# Altium schematic symbol library Current_sence_unit.SCHLIB: 25 symbols
Pins are listed as number, name and electrical type; pins without a type are passive.

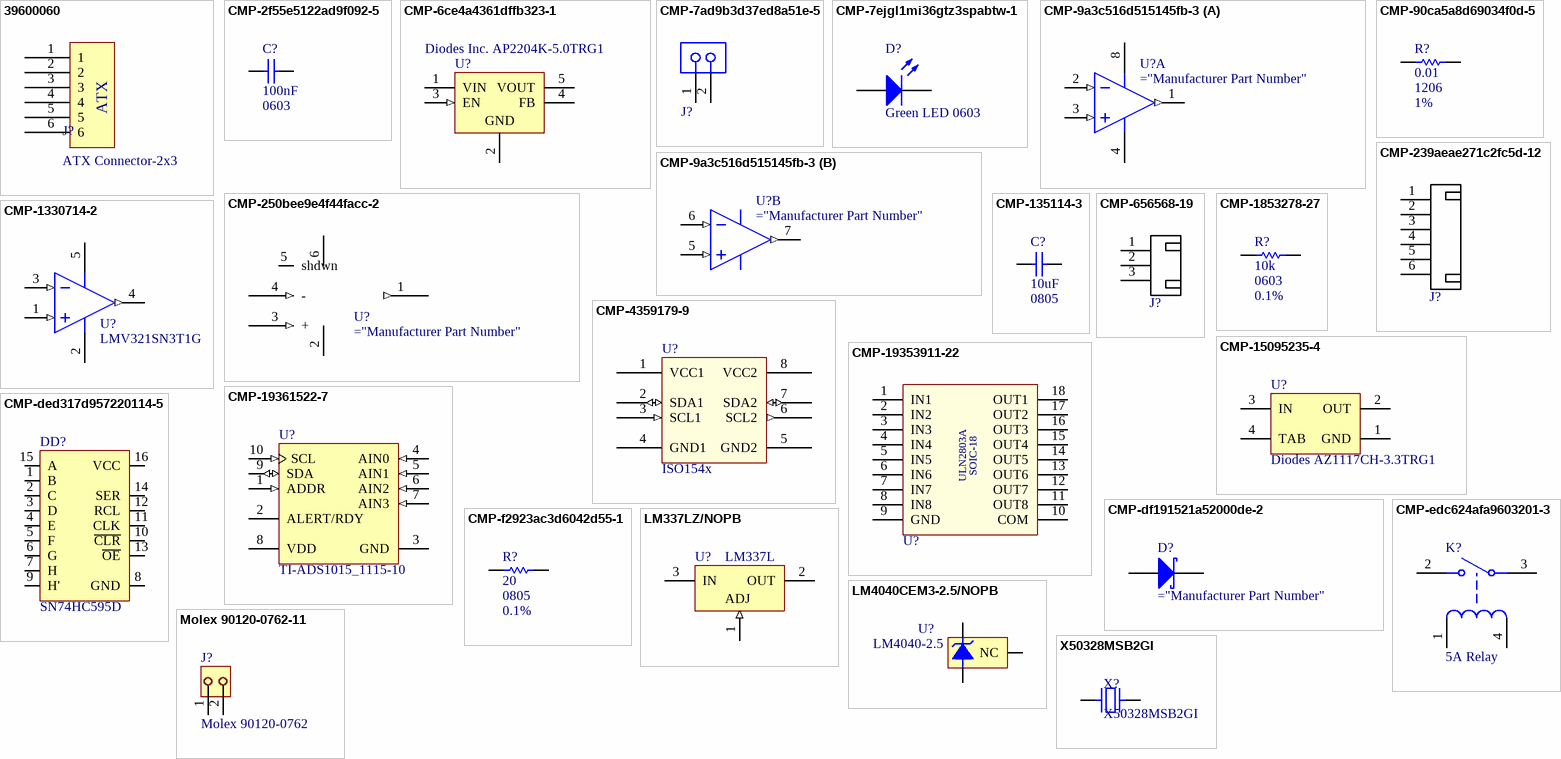
[diagram p0: symbols 39600060 to X50328MSB2GI]

## 39600060
designator J?, comment ATX Connector-2x3
Connector Header Through Hole, Right Angle 6 position 0.165" (4.20mm); Manufacturer: BOOMELE(Boom Precision Elec); Manufacture Part Number: 5557-2*3AW; Pin Pitch: 4.2mm; Supplier: LCSC; Supplier Part Number: C54904
footprint 30300060 (Connector Header Through Hole, Right Angle 6 position 0.165" (4.20mm))
pins: 1, 2, 3, 4, 5, 6
text: ATX

## CMP-2f55e5122ad9f092-5
designator C?, comment 100nF  Package / Case: 0603
0603 10 nF 50 V ± 10% Tolerance X7R Surface Mount Multilayer Ceramic Capacitor; Manufacture Part Number: CC0603KRX7R9BB104; Manufacturer: YAGEO; Voltage-Rated: 50V; Capacitance Tolerance: 10%; Capacitance: 100nF; Supplier: LCSC; Supplier Part Number: C14663
footprint CAPC1608X90X35NL15T15
footprint CAPC1608X90X35LL15T15
simulation model SIM-no9t85n8kjw1vco1f364-1 (Sim Model - AVX 06035C103KAT2A)
footprint CAPC1608X90X35ML15T15
footprint CAPC1608X09N (Footprint - 10nF)
pins: 1, 2

## CMP-6ce4a4361dffb323-1
designator U?, comment Diodes Inc. AP2204K-5.0TRG1
LDO voltage regulator [Diodes Incorporated] AP2204K-5.0TRG1 LDO voltage regulator; Manufacture Part Number: AP2204K-ADJTRG1; Lead-Free Status: Lead Free; Mounting Style: Surface Mount; Manufacturer: Diodes Incorporated; Supplier: LCSC; Supplier Part Number: C264072; Package: SOT-23-5
footprint PCB-iw3p7s72x6qbi5zew47f-1 (Footprint - Diodes Inc. AP2204K-5.0TRG1)
pins: 1 VIN (power), 2 GND (power), 3 EN (in), 4 FB, 5 VOUT (power)

## CMP-7ad9b3d37ed8a51e-5
designator J?, comment DB126V-5.0-2P-GN  (value not drawn)
Block, Terminal; 13.5 A; 250 V; 5 mm; 26 to 16 AWG; 2; Screw; Solder; 4 kV; PA; Manufacturer: DIBO; Pin pitch: 5.0mm; Manufacture Part Number: DB126V-5.0-2P-GN; Supplier: LCSC; Supplier Part Number: C395849
footprint PCB-kiok1jlp9o9fcwf1wwvf-1 (Footprint - Phoenix Contact 1729018)
pins: 1, 2

## CMP-7ejgl1mi36gtz3spabtw-1
designator D?, comment Green LED 0603
Generic LED 0603; Manufacturer: Orient; Manufacture Part Number: ORH-G36G; Forward Voltage: 2.8V; Color: Green; Supplier: LCSC; Supplier Part Number: C205443
footprint 0603LED_GEN (genaric LED 0603)
pins: 1 A, 2 K

## CMP-9a3c516d515145fb-3
designator U?
LM358 Series 30 V 1.1 MHz Low Power Dual Operational Amplifier - SOIC-8; Manufacture Part Number: LM358DT; Manufacturer: STMicroelectronics; Slew Rate: 600 mV/μs; Number of Channels: 2; Gain Bandwidth Product: 1.10 MHz; Supply Current: 700 µA; Lead-Free Status: Lead Free; Supply Voltage (DC): 32.0 V; Lifecycle Status: Active; REACH SVHC Compliance: No SVHC; Octopart URL: https://octopart.com/lm358dt-stmicroelectronics-39579147; RoHS: Compliant; Number of Pins: 8; Bandwidth: 1.10 MHz; Number of Circuits: 2; Packaging: Cut Tape (CT), Tape & Reel (TR); Mounting Style: Surface Mount; Case/Package: SOIC; OctopartID: 9a3c516d515145fb; Supplier Part Number: C9418; Supplier: LCSC
footprint SOIC-OA8_L (SOIC, 8-Leads, Body 4.9x3.9mm, Pitch 1.27mm, IPC High Density)
footprint SOIC-OA8_N (SOIC, 8-Leads, Body 4.9x3.9mm, Pitch 1.27mm, IPC Medium Density)
footprint SOIC-OA8_M (SOIC, 8-Leads, Body 4.9x3.9mm, Pitch 1.27mm, IPC Low Density)
part A pins: 1 OUTA (out), 2 INA- (in), 3 INA+ (in), 4 VEE/GND (power), 8 VCC (power)
part B pins: 5 INB+ (in), 6 INB- (in), 7 OUTB (out)

## CMP-90ca5a8d69034f0d-5
designator R?, comment 0.01  Package / Case: 1206  Resistance Tolerance: 1%
Res Thick Film 3.2 x 1.6 mm 10K Ohm 1% 0.25W(1/4W) 100ppm/ C Molded SMD Paper T/R; Manufacture Part Number: PE1206FKE470R01Z; Manufacturer: YAGEO; Resistance: 0.01; Supplier: LCSC; Supplier Part Number: C364375
footprint RESC3116X07N (Footprint - Yageo RC1206FR-0710KL)
footprint RESC3116X07M (Footprint - Yageo RC1206FR-0710KL)
footprint RESC3116X07L (Footprint - Yageo RC1206FR-0710KL)
pins: 1, 2

## CMP-239aeae271c2fc5d-12
designator J?, comment JST S6B-XH-A  (value not drawn)
Socket; wire-board; male; PIN: 6; 2.5mm; THT; XH; 250V; 3A; -25÷85°C; Manufacturer: JST Sales America; Manufacture Part Number: S6B-XH-A(LF)(SN); Lead-Free Status: Lead Free; Voltage Rating (AC): 250 V; Orientation: Right Angle; Supplier: LCSC; Supplier Part Number: C157919
footprint JST S6B-XH-A (Footprint - JST S6B-XH-A (LF)(SN))
pins: 1, 2, 3, 4, 5, 6

## CMP-250bee9e4f44facc-2
designator U?
OP Amp Single GP R-R O/P 5.5V 6-Pin SOT-23 T/R; Manufacture Part Number: MAX4239AUT+T; Manufacturer: Maxim Integrated; Bandwidth: 6.50 MHz; Slew Rate: 1.60 V/μs; RoHS: Compliant; Number of Pins: 6; Packaging: Cut Tape (CT); Octopart URL: http://octopart.com/max4239aut%2Bt-maxim+integrated-43994921; Lifecycle Status: Not Listed by Manufacturer; OctopartID: 250bee9e4f44facc; Supplier: utsource
footprint MF06A_N (SOT23, 6-Leads, Body 2.9x1.6mm, Pitch 0.95mm, Lead Span 2.8mm, IPC Medium Density)
pins: 1 (out), 2 V- (power), 3 + (in), 4 - (in), 5 shdwn, 6 V+ (power)

## CMP-135114-3
designator C?, comment 10uF  Package / Case: 0805
Cap Ceramic 0.1uF 50V X7R 10% SMD 0805 125C Embossed T/R; Manufacture Part Number: CL21B106KOQNNNE; Manufacturer: Samsung Electro-Mechanics; Voltage-Rated: 16V; Capacitance Tolerance: *; Capacitance: 10uF; Supplier: LCSC; Supplier Part Number: C95841
footprint CAPC2013X140X45NL15T25
footprint CAPC2013X140X45ML15T25
footprint CAPC2013X140X45LL15T25
footprint C0805 (Footprint - Murata GCM21BR71H104KA37L)
pins: 1, 2
1 alternate drawing of the same symbol

## CMP-656568-19
designator J?, comment CN-1P-M-R3  (value not drawn)
Male Header, Pitch 2.5 mm, 1 x 3 Position, Height 6.1 mm, Tail Length 3.4 mm, -25 to 85 degC, RoHS, Bulk; Manufacture Part Number: S3B-XH-A(LF)(SN); Manufacturer: JST Sales America; Number of Contacts: 3; Current Rating: 3.00 A; Lead-Free Status: Lead Free; Insulation Resistance: 1.00 GΩ; RoHS: Compliant; PackageDescription: Male Header, Pitch 2.5 mm, 1 x 3 Position, Height 6.1 mm, Tail Length 3.4 mm; Gender: Male; Mounting Style: Through Hole; PackageReference: S3B-XH-A(LF)(SN); Supplier Part Number: C157928; Supplier: LCSC
footprint PCB-gkc5locju3cpl89w24hk-1 (Footprint - JST S3B-XH-A(LF)(SN))
footprint JST-S3B-XH-A(LF)(SN)_V (Header, 3-Leads, Body 9.9x11.5mm, Pitch 2.5mm)
pins: 1, 2, 3

## CMP-1330714-2
designator U?, comment LMV321SN3T1G
Single Low-Voltage, Rail-to-Rail Operational Amplifier, 2.7 to 5.5 V, -40 to 85 degC, 5-Pin TSOP, Pb-Free, Tape and Reel; Manufacturer: Gainsil; Manufacture Part Number: LMV321-TR; Lead-Free Status: Lead Free; Lifecycle Status: Active; Supplier: LCSC; Supplier Part Number: C362273; RoHS: Compliant
footprint ONSC-TSOP-5-483-02_V (SOP, 5-Leads, Body 3x1.5mm, Pitch 0.95mm)
pins: 1 IN+ (in), 2 V- (power), 3 IN- (in), 4 OUT (out), 5 V+ (power)

## CMP-1853278-27
designator R?, comment 10k  Package / Case: 0603  Resistance Tolerance: 0.1%
Surface Mount Thick Film Resistor, RC Series, 1 kohm, 100 mW, - 1%, 50 V, 0603 [1608 Metric]; Manufacture Part Number: WF06Q1002BTL; Manufacturer: Walsin Tech Corp; Resistance: 10k; Supplier: LCSC; Supplier Part Number: C305259
footprint PCB-c56upckieq4snpr883xl-1 (Footprint - Yageo RC0603FR-071KL)
footprint PCB-flrvdajmcioznvlehhsq-1 (Footprint - Yageo RC0603FR-0710KL)
footprint gen0603-2 (Footprint - Yageo RC0603FR-071KL)
footprint PCB-3hliodl2wc5u86wutd2h-1 (Footprint - Yageo RC0603FR-071KL)
footprint R0603 (Footprint - Yageo RC0603FR-071KL)
footprint RESC1608X55X25NL10T15 (Footprint - Yageo RC0603FR-071KL)
footprint PCB-3elf45qdqizoabmczrxc-1 (Footprint - Yageo RC0603FR-071KL)
pins: 1, 2
1 alternate drawing of the same symbol

## CMP-4359179-9
designator U?, comment ISO154x
Low-Power, Bidirectional I2C Isolators 8-SOIC -40 to 125; Manufacture Part Number: ISO1541DR; Manufacturer: Texas Instruments; Data Rate: 1000000.0 bps; Supply Voltage (DC): 3 to 5.5 V; Lead-Free Status: Lead Free; Number of Channels: 2; Octopart URL: http://octopart.com/iso1541dr-texas+instruments-24334115; Lifecycle Status: Active; Number of Pins: 8; RoHS: Compliant; OctopartID: 6027a85e0a62bfe0; Case/Package: SOIC; Supplier: LCSC; Supplier Part Number: C143028
footprint SOIC127P600X265-8N (Footprint - Texas Instruments ISO1541DR)
footprint SOIC127P600X175-8N (Footprint - ISO154x)
pins: 1 VCC1 (power), 2 SDA1 (io), 3 SCL1 (in), 4 GND1 (power), 5 GND2 (power), 6 SCL2 (out), 7 SDA2 (io), 8 VCC2 (power)

## CMP-15095235-4
designator U?, comment Diodes AZ1117CH-3.3TRG1
IC REG LDO 3.3V 0.8A SOT223; Manufacturer: Diodes Incorporated; Lead-Free Status: Lead Free; OctopartID: a6d46e06d6807913; Manufacture Part Number: AZ1117CH-3.3TRG1; Octopart Url: https://octopart.com/az1117ch-3.3trg1-diodes+inc.-30954802; Lifecycle Status: Not Listed by Manufacturer; RoHS: Compliant; Supplier Part Number: C92102; Supplier: LCSC
footprint PCB-15095235-1 (Footprint - Diodes AZ1117CH-3.3TRG1)
pins: 1 GND (power), 2 OUT (power), 3 IN (power), 4 TAB (power)

## CMP-19353911-22
designator U?, comment ULN2803A (SOIC-18)  (value not drawn)
Bipolar (BJT) Array Transistor, Darlington, NPN, 50 V, 500 mA, SOIC; Manufacturer: Mixic; Manufacture Part Number: ULN2803A; Supplier: LCSC; Supplier Part Number: C107219; Package / Case: SOP-18_300mil
footprint PCB-gcdku7p92m9mz9ih2yin-1 (Footprint - ULN2803A (SOIC-18))
pins: 1 IN1, 2 IN2, 3 IN3, 4 IN4, 5 IN5, 6 IN6, 7 IN7, 8 IN8, 9 GND (power), 10 COM (power), 11 OUT8 (power), 12 OUT7 (power), 13 OUT6 (power), 14 OUT5 (power), 15 OUT4 (power), 16 OUT3 (power), 17 OUT2 (power), 18 OUT1 (power)
text: SOIC-18

## CMP-19361522-7
designator U?, comment TI-ADS1015_1115-10
Quad Channel Single ADC Delta-Sigma 860sps 16-bit Serial 10-Pin VSSOP T/R; Manufacturer: Texas Instruments; Manufacture Part Number: ADS1115IDGST; Power Consumption: 360 µW; Number of Bits: 16; Supply Voltage (DC): 5.50 V (max), 2.00 V (min); OctopartID: 7248bbf0cbd1ad8f; Packaging: Tape & Reel (TR), Reel, Cut Tape (CT); Number of Pins: 10; Supplier: utsource
footprint PCB-gqbslbs1r8rxldsn6t09-1 (Footprint - ADS1115IDGST)
pins: 1 ADDR (in) "I2C slave address select", 2 ALERT/RDY (oc) "Digital comparator output or conversion ready", 3 GND (power) "Ground", 4 AIN0 (in) "Differential channel 1: Positive input or single-ended channel 1 input", 5 AIN1 (in) "Differential channel 1: Negative input or single-ended channel 2 input", 6 AIN2 (in) "Differential channel 2: Positive input or single-ended channel 3 input", 7 AIN3 (in) "Differential channel 2: Negative input or single-ended channel 4 input", 8 VDD (power) "Power supply: 2.0V to 5.5V", 9 SDA (io) "Serial data: Transmits and receives data", 10 SCL (in) "Serial clock input: Clocks data on SDA"

## CMP-ded317d957220114-5
designator DD?, comment SN74HC595D
Shift Register Single 8-Bit Serial to Serial/Parallel 16-Pin SOIC Tube; Manufacture Part Number: 74HC595D,118; Manufacturer: Nexperia; Supplier: LCSC; Supplier Part Number: C5947; Package / Case: SOIC-16_150mil
footprint PCB-ocmcq683bsiu4pbe2rlg-1 (Footprint - Texas Instruments SN74HC595D)
footprint PCB-72k1vk0k27b6qyyenbg0-1 (Footprint - Texas Instruments SN74HC595D)
pins: 1 B, 2 C, 3 D, 4 E, 5 F, 6 G, 7 H, 8 GND, 9 H', 10 ~{CLR}, 11 CLK, 12 RCL, 13 ~{OE}, 14 SER, 15 A, 16 VCC

## CMP-df191521a52000de-2
designator D?
Diode Schottky 30V 2-Pin SOD-323; Manufacture Part Number: CUS08F30,H3F; Manufacturer: TOSHIBA; OctopartID: df191521a52000de; Octopart URL: http://octopart.com/cus08f30%2Ch3f-toshiba-53632863; Supplier Part Number: C150183; Supplier: LCSC
footprint PCB-7qpkjsjx5cjbarp1o0hc-1 (Footprint - Toshiba CUS08F30,H3F)
pins: 1 K, 2 A

## CMP-edc624afa9603201-3
designator K?, comment 5A Relay
General Purpose Non Latching 12VDC SPST-NO 5A Through Hole Relays RoHS; Manufacturer: HF(Xiamen Hongfa Electroacoustic); Manufacture Part Number: HF46F/12-HS1; Supplier: LCSC; Supplier Part Number: C3636; Current-Rated: 5A
footprint PCB-ei6nokn2irsc2a7yt94x-1 (Footprint - Omron G5NB-1A-E-DC5V)
pins: 1, 2, 3, 4

## CMP-f2923ac3d6042d55-1
designator R?, comment 20  Package / Case: 0805  Resistance Tolerance: 0.1%
Res Thin Film 0805 4.99 Ohm 0.1% 1/8W ±15ppm/°C Molded SMD SMD Paper T/R; Manufacture Part Number: MCWF08U20R0BTL; Manufacturer: Multicomp; Resistance: 20; Supplier: LCSC; Supplier Part Number: C241306
footprint PCB-p5gaxfzqzpvl2g018b4o-1 (Footprint - TE Connectivity RP73PF2A10K7BTDF)
footprint PCB-n8jjrlvtn21wh8xiphlm-1 (Footprint - TE Connectivity RP73PF2A10K7BTDF)
footprint PCB-gql3555ivqoal3uli57v-1 (Footprint - TE Connectivity RP73PF2A10K7BTDF)
pins: 1, 2

## LM337LZ/NOPB
designator U?, comment LM337L
3-Terminal Adjustable Regulator, 3-pin TO-92, Pb-Free; Manufacture Part Number: LM337LZ/NOPB; Manufacturer: Texas Instruments; Current Rating: 1.0 A; Dropout Voltage: 0.003 V; Lead-Free Status: Lead Free; Number of Outputs: 1; Output Current: 0.1 A; Case/Package: SOIC; Lifecycle Status: Active; Mounting Style: Through Hole; Number of Pins: 3; Number of Regulated Outputs: 1; Octopart Url: https://octopart.com/lm337lz%2Fnopb-texas+instruments-24813737; OctopartID: cd28055848e712ef; Packaging: Box; REACH SVHC Compliance: No SVHC; RoHS: Compliant; Supplier: LCSC; Supplier Part Number: C33082
footprint Z03A (TO, Flat Index; 3 In-Line, Axial Leads; Body Dia. 5mm; Leads 0.55 x 0.50 mm (max))
pins: 1 ADJ (in), 2 OUT (power), 3 IN (power)

## LM4040CEM3-2.5/NOPB
designator U?, comment LM4040-2.5
Precision Micropower Shunt Voltage Reference, 3-pin SOT-23, Pb-Free; Manufacture Part Number: LM4040D25FTA; Manufacturer: Diodes Incorporated; Lead-Free Status: Lead Free; Output Current: 0.015 A; Output Voltage: 2.5 V; Lifecycle Status: Active; Mounting Style: Surface Mount; Number of Pins: 3; Octopart Url: https://octopart.com/lm4040cem3-2.5%2Fnopb-texas+instruments-24814254; OctopartID: 26c2eeb2a10af905; Packaging: Tape & Reel (TR); REACH SVHC Compliance: No SVHC; RoHS: Compliant; Supplier Part Number: C107244; Supplier: LCSC
footprint MF03A_L (SOT23, 3-Leads, Body 2.9x1.3mm, Pitch 0.95mm, Lead Span 2.4mm, IPC High Density)
footprint MF03A_M (SOT23, 3-Leads, Body 2.9x1.3mm, Pitch 0.95mm, Lead Span 2.4mm, IPC Low Density)
footprint MF03A_N (SOT23, 3-Leads, Body 2.9x1.3mm, Pitch 0.95mm, Lead Span 2.4mm, IPC Medium Density)
pins: 1 +V, 2 -V, 3 NC

## Molex 90120-0762-11
designator J?, comment Molex 90120-0762
2.54mm (.100") Pitch C-Grid III Header, Single Row, Vertical, 1 Circuits, Gold (Au) Plating; Number of Positions: 2; Lead-Free Status: Lead Free; Voltage Rating (AC): 350.0 V; Current Rating: 3.0 A; Number of Circuits: 1; Gender: Male; Insulation Resistance: 5000000000.0 ?; Contact Resistance: 0.02; Pin Pitch: 0.00254 m; Glow Wire Compliant: Non-Compliant; Octopart URL: http://octopart.com/90120-0762-molex-655414; OctopartID: 8fae46aeaafe5069; Contact Plating: Gold; Packaging: Bag; Contact Material: Brass; Size-Length: 0.00508 m; Lifecycle Status: Not Listed by Manufacturer; Voltage Rating (DC): 350.0 V; Housing Color: Black; Size-Height: 0.0025 m; Housing Material: Plastic; Size-Width: 0.00254 m; Number of Rows: 1; Number of Contacts: 2; Halogen Free Status: Not Reviewed; Orientation: Vertical; Mounting Style: Through Hole, Vertical; RoHS: Compliant
footprint PCB-55llon6gpk2h6a06nz0l-1 (Footprint - Molex 90120-0762)
pins: 1, 2

## X50328MSB2GI
designator X?
8MHz ±10ppm 20pF 60Ω ~ 80Ω SMD-5032_2P SMD Crystal Resonators RoHS; Manufacturer: Yangxing Tech; ComponentLink1Description: datasheet; ComponentLink1URL: https://datasheet.lcsc.com/szlcsc/1809192319_Yangxing-Tech-X50328MSB2GI_C115962.pdf; Supplier: LCSC; Supplier Part Number: C115962; Manufacture Part Number: X50328MSB2GI; Frequency: 8MHz
footprint X50328MSB2GI (8MHz ±10ppm 20pF 60O ~ 80O SMD-5032_2P SMD Crystal Resonators RoHS)
pins: 1, 2